# EAGLE library part CN3801 (library Consonance_v2)
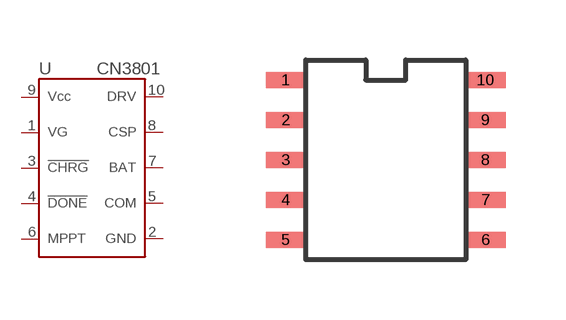
[diagram p0: symbol with the pads of SSOP10; footprint SSOP10]

Designator prefix -

## CN3801  [SSOP10]
1  VG  in
2  GND  pwr
3  !CHRG  out
4  !DONE  out
5  COM  out
6  MPPT  in
7  BAT  out
8  CSP  out
9  VCC  pwr
10  DRV  out

## Footprint SSOP10 (pad centres in mm)
smd 1 x 0.4: 1 -2.5,2; 2 -2.5,1; 3 -2.5,0; 4 -2.5,-1; 5 -2.5,-2; 6 2.5,-2; 7 2.5,-1; 8 2.5,0; 9 2.5,1; 10 2.5,2